# EAGLE library part SAMACSYS_PARTS_RK14J12A0A0K (library goJAMMAv02)
Potentiometers Dual Unit 14mm 3B insertion (2mm) Source: Datasheet <http://www.mouser.com/datasheet/2/15/RKJ1-1370680.pdf>
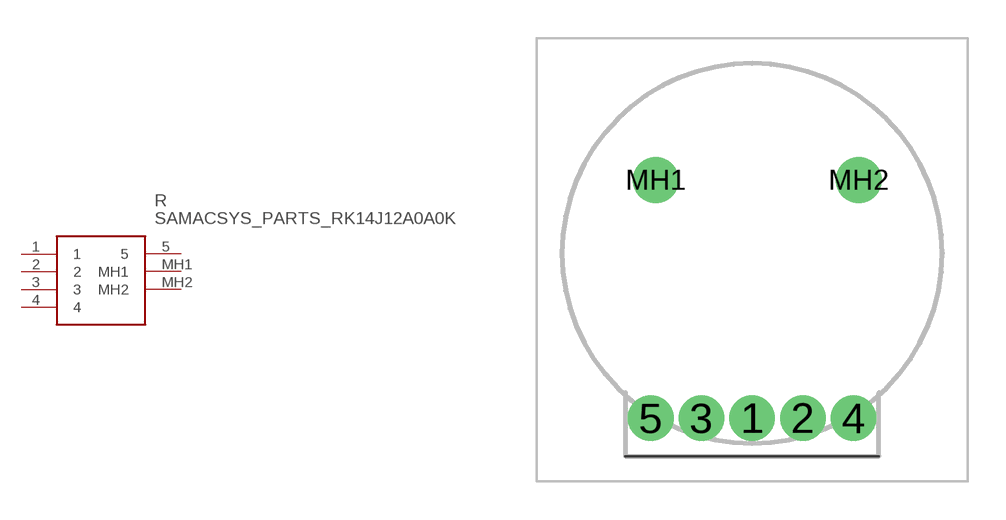
[diagram p8: symbol with the pads of SAMACSYS_PARTS_RK14J12A0A0K; footprint SAMACSYS_PARTS_RK14J12A0A0K]

Designator prefix R

## SAMACSYS_PARTS_RK14J12A0A0K (DESCRIPTION: Potentiometers Dual Unit 14mm 3B insertion (2mm); HEIGHT: 2.5mm; MANUFACTURER_NAME: ALPS; MANUFACTURER_PART_NUMBER: RK14J12A0A0K; MOUSER_PART_NUMBER: 688-RK14J12A0A0K; MOUSER_PRICE-STOCK: https://www.mouser.com/Search/Refine.aspx?Keyword=688-RK14J12A0A0K)  [SAMACSYS_PARTS_RK14J12A0A0K]
1  1
2  2
3  3
4  4
5  5
MH1  MH1
MH2  MH2

## Footprint SAMACSYS_PARTS_RK14J12A0A0K (pad centres in mm)
RK14J12A0A0K-3
drill 1.2 pad 1.8: 1 0,0; 2 2,0; 3 -2,0; 4 4,0; 5 -4,0
drill 1.204 pad 1.806: MH1 -3.8,9.4; MH2 4.2,9.4